# EAGLE library part TCA8418RTWR (library PocketCHIP-v1.0)
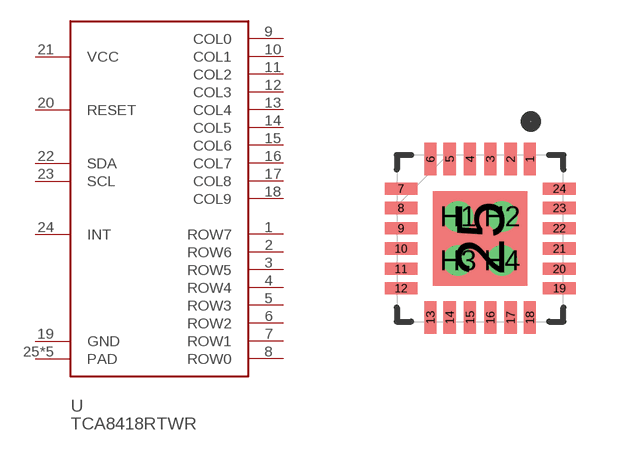
[diagram p0: symbol with the pads of WQFN24; footprint WQFN24]

Designator prefix U

## TCA8418RTWR (DESCRIPTION: Keypad/IO I2C expander, 8 rows 10 columns; FOOTPRINT: WQFN24; LINK: http://www.digikey.com/product-detail/en/TCA8418RTWR/296-25223-1-ND/2172845; MFG: DIGIKEY; MFG_PN: 296-25223-1-ND; PART_TYPE: IC; PRICE: 1.4; VENDOR: TI; VENDOR_PART_NUMBER: TCA8418RTWR)  [WQFN24]
1  ROW7
2  ROW6
3  ROW5
4  ROW4
5  ROW3
6  ROW2
7  ROW1
8  ROW0
9  COL0
10  COL1
11  COL2
12  COL3
13  COL4
14  COL5
15  COL6
16  COL7
17  COL8
18  COL9
19  GND  pwr
20  RESET
21  VCC  pwr
22  SDA
23  SCL
24  INT
25  PAD  pwr
H1  PAD  pwr
H2  PAD  pwr
H3  PAD  pwr
H4  PAD  pwr

## Footprint WQFN24 (pad centres in mm)
smd 0.305 x 0.813: 1 1.245,1.981; 2 0.762,1.981; 3 0.254,1.981; 4 -0.254,1.981; 5 -0.762,1.981; 6 -1.245,1.981; 13 -1.245,-1.981; 14 -0.762,-1.981; 15 -0.254,-1.981; 16 0.254,-1.981; 17 0.762,-1.981; 18 1.245,-1.981
smd 0.813 x 0.305: 7 -1.981,1.245; 8 -1.981,0.762; 9 -1.981,0.254; 10 -1.981,-0.254; 11 -1.981,-0.762; 12 -1.981,-1.245; 19 1.981,-1.245; 20 1.981,-0.762; 21 1.981,-0.254; 22 1.981,0.254; 23 1.981,0.762; 24 1.981,1.245
smd 2.362 x 2.362: 25 0,0
drill 0.254 pad 0.406: H1 -0.55,0.55; H2 0.55,0.55; H3 -0.55,-0.55; H4 0.55,-0.55